# Altium footprint library XT60PWM.PcbLib: 1 footprints
Each footprint in its own frame and in the unit in brackets; x right, y up, seen from the top. Pads: shape width x height; smd on the part's side, far side on the other; paste and mask are expansions set on the pad; w line width, h text height; cw(c..) or ccw(c..) is an arc to the next point about the centre after c.
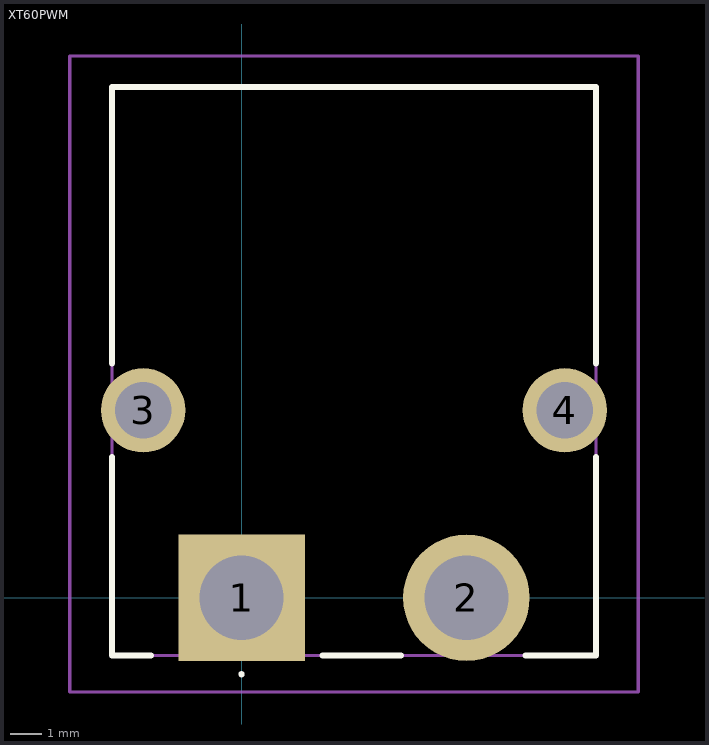
[diagram p0: the footprint, top view; thin cyan lines are the x and y axes]

## XT60PWM [mm]
pads (4):
  rect 4.05x4.05 hole 2.7: 1(0,0)
  round 4.05 hole 2.7: 2(7.2,0)
  round 2.7 hole 1.8: 3(-3.15,6) 4(10.35,6)
Top Overlay:
  lines w0.1: 0,-2.5 0,-2.5 ; 0,-2.5 ccw(c0,-2.45) 0,-2.4 ; 0,-2.5 cw(c0,-2.45) 0,-2.4 ; 0,-2.4 0,-2.4
  lines w0.2: -4.15,4.5 -4.15,-1.85 -2.9,-1.85 ; -4.15,7.5 -4.15,16.35 11.35,16.35 11.35,7.5 ; 2.6,-1.85 5.1,-1.85 ; 9.1,-1.85 11.35,-1.85 11.35,4.5
Mechanical 15:
  lines w0.1: -4.15,-1.85 11.35,-1.85 11.35,16.35 -4.15,16.35 -4.15,-1.85
Mechanical 20:
  lines w0.1: -5.5,-3.025 12.7,-3.025 12.7,17.35 -5.5,17.35 -5.5,-3.025